# EAGLE library part BTM-222-SERIAL (library BTM-222)
Rayson BTM-222 Bluetooth Modul Serial Pins
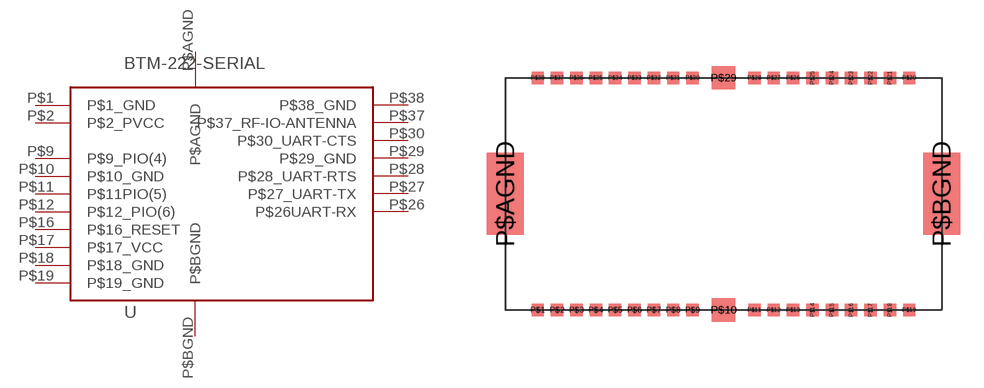
[diagram p1: symbol with the pads of BTM-222; footprint BTM-222]

Designator prefix -

## BTM-222-SERIAL  [BTM-222]
P$1  P$1_GND  pwr
P$2  P$2_PVCC  pwr
P$9  P$9_PIO(4)
P$10  P$10_GND  pwr
P$11  P$11PIO(5)
P$12  P$12_PIO(6)
P$16  P$16_RESET  in
P$17  P$17_VCC  pwr
P$18  P$18_GND  pwr
P$19  P$19_GND  pwr
P$26  P$26UART-RX  in
P$27  P$27_UART-TX  out
P$28  P$28_UART-RTS  out
P$29  P$29_GND  pwr
P$30  P$30_UART-CTS  in
P$37  P$37_RF-IO-ANTENNA
P$38  P$38_GND  pwr
P$AGND  P$AGND  pwr
P$BGND  P$BGND  pwr

## Footprint BTM-222 (pad centres in mm)
Rayson BTM-222 Bluetooth Modul
smd 0.8 x 0.8: P$1 -12.635,-7.5; P$2 -11.385,-7.5; P$3 -10.135,-7.5; P$4 -8.885,-7.5; P$5 -7.635,-7.5; P$6 -6.385,-7.5; P$7 -5.135,-7.5; P$8 -3.885,-7.5; P$9 -2.635,-7.5; P$11 1.365,-7.5; P$12 2.615,-7.5; P$13 3.865,-7.5; P$14 5.115,-7.5; P$15 6.365,-7.5; P$16 7.615,-7.5; P$17 8.865,-7.5; P$18 10.115,-7.5; P$19 11.365,-7.5; P$20 11.365,7.5; P$21 10.115,7.5; P$22 8.865,7.5; P$23 7.615,7.5; P$24 6.365,7.5; P$25 5.115,7.5; P$26 3.865,7.5; P$27 2.615,7.5; P$28 1.365,7.5; P$30 -2.635,7.5; P$31 -3.885,7.5; P$32 -5.135,7.5; P$33 -6.385,7.5; P$34 -7.635,7.5; P$35 -8.885,7.5; P$36 -10.135,7.5; P$37 -11.385,7.5; P$38 -12.635,7.5
smd 1.5 x 1.5: P$10 -0.635,-7.5; P$29 -0.635,7.5
smd 2.4 x 5.3: P$AGND -14.735,0; P$BGND 13.465,0